# Altium schematic symbol library keyboard_library.SCHLIB: 8 symbols
Pins are listed as number, name and electrical type; pins without a type are passive.

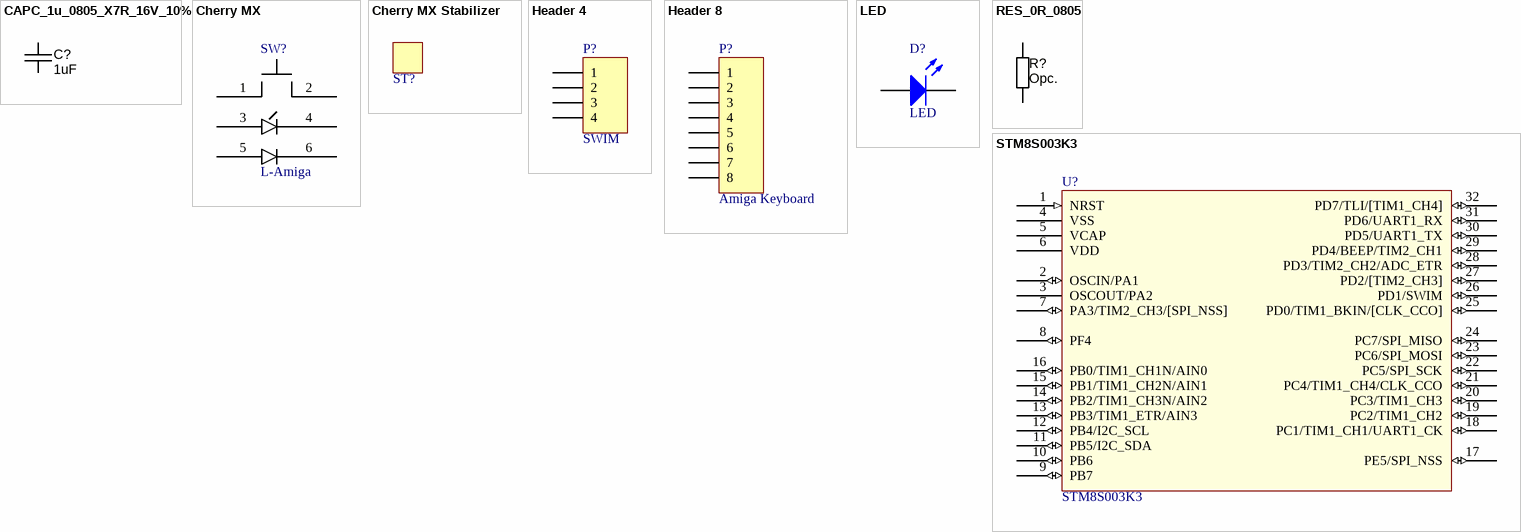
[diagram p0: symbols CAPC_1u_0805_X7R_16V_10% to STM8S003K3]

## CAPC_1u_0805_X7R_16V_10%
designator C?, comment value 1uF  (hidden comment: 0805)
Capacitor SMD Cer X7R 0805; Tolerance: ±10%; Ratings: 16V; X7R; Material: ceramic; SCDType: spec; Package / Case: 0805 (2012 metric); Temperature Coefficient: X7R
footprint CAPC2012X135N (Chip Capacitor, Body 2.0x1.2mm, 0805, IPC Medium Density)
pins: 1, 2

## Cherry MX
designator SW?, comment L-Amiga
Cherry MX keyboard switch
footprint CHERRYMX_5PIN (Cherry MX 5 pin mechanical keyboard switch)
pins: 1, 2, 3, 4, 5, 6

## Cherry MX Stabilizer
designator ST?  (value not drawn)
Stabilizer for Cherry MX compatible switches
footprint CHERRYMX_STAB (Cherry MX Stabilizer)

## Header 4
designator P?, comment SWIM
Header, 4-Pin; LatestRevisionDate: 17-Jul-2002; LatestRevisionNote: Re-released for DXP Platform.; Publisher: Altium Limited
footprint HDR1X4 (Connector; Header; 4 Position)
signal-integrity model Connector
pins: 1, 2, 3, 4

## Header 8
designator P?, comment Amiga Keyboard
Header, 8-Pin; LatestRevisionDate: 17-Jul-2002; LatestRevisionNote: Re-released for DXP Platform.; Publisher: Altium Limited
footprint HDR1X8 (Connector; Header; 8 Position)
signal-integrity model Connector
pins: 1, 2, 3, 4, 5, 6, 7, 8

## LED
designator D?
Typical LED; Published: 8-Jun-2000; LatestRevisionDate: 08-Jul-2005; LatestRevisionNote: Mech Layer 1 removed.; PackageReference: LED-1; Publisher: Altium Limited; PackageDescription: LED; 2 Leads
footprint LEDSQ_5mm (Square LED 5mm)
pins: 1 A, 2 K

## RES_0R_0805
designator R?, comment value Opc.  (hidden comment: 0805)
Resistor SMD chip 0.0 Ohm 0.125W 0805; Manufacturer 1: Samsung Electro-Mechanics America, Inc; Manufacturer Part Number 1: RC2012J000CS; Ratings: 1/8W; SCDType: spec; Tolerance: N/A; Package / Case: 0805 (2012 metric); Supplier 1: Digi-Key; Supplier Part Number 1: 1276-5466-6-ND; RoHS 1: RoHS Compliant; ComponentLink1URL: http://www.samsungsem.com/servlet/FileDownload?filename=productcatalog/pdf/Chip_Resistor.pdf; ComponentLink1Description: http://www.samsungsem.com/servlet/FileDownload?filename=productcatalog/pdf/Chip_Resistor.pdf; Supplier 2: Digi-Key; Supplier Part Number 2: RMCF0805ZT0R00DKR-ND; Manufacturer 2: Stackpole Electronics Inc; Manufacturer Part Number 2: RMCF0805ZT0R00; RoHS 2: RoHS Compliant; ComponentLink2URL: http://www.seielect.com/Catalog/SEI-RMCF_RMCP.pdf; ComponentLink2Description: http://www.seielect.com/Catalog/SEI-RMCF_RMCP.pdf; Supplier 3: Digi-Key; Supplier Part Number 3: 311-0.0ARDKR-ND; Manufacturer 3: Yageo; Manufacturer Part Number 3: RC0805JR-070RL; RoHS 3: RoHS Compliant; ComponentLink3URL: http://media.digikey.com/pdf/Data%20Sheets/Yageo%20PDFs/RC0805%20Pb%20Free.pdf; ComponentLink3Description: http://media.digikey.com/pdf/Data%20Sheets/Yageo%20PDFs/RC0805%20Pb%20Free.pdf; Supplier 4: Digi-Key; Supplier Part Number 4: P0.0ADKR-ND; Manufacturer 4: Panasonic Electronic Components; Manufacturer Part Number 4: ERJ-6GEY0R00V; RoHS 4: RoHS Compliant; ComponentLink4URL: http://industrial.panasonic.com/www-cgi/jvcr13pz.cgi?E+PZ+3+AOA0001+ERJ6GEY0R00V+7+WW; ComponentLink4Description: http://industrial.panasonic.com/www-cgi/jvcr13pz.cgi?E+PZ+3+AOA0001+ERJ6GEY0R00V+7+WW; Supplier 5: Digi-Key; Supplier Part Number 5: RHM0.0CPDKR-ND; Manufacturer 5: Rohm Semiconductor; Manufacturer Part Number 5: MCR10ERTJ000; RoHS 5: RoHS Compliant; ComponentLink5URL: http://rohmfs.rohm.com/en/products/databook/datasheet/passive/resistor/chip_resistor/mcr_g.pdf; ComponentLink5Description: http://rohmfs.rohm.com/en/products/databook/datasheet/passive/resistor/chip_resistor/mcr_g.pdf
footprint RESC2012N_ZERO (Chip Resistor, Body 2.0x1.2mm, 0805, IPC Medium Density)
pins: 1, 2

## STM8S003K3
designator U?
ST Microelectronics STM8S003K3 microcontroller
footprint LQFP32_N (Thin QFP, 32-Leads, Body 7x7mm, Pitch 0.8mm, IPC Medium Density)
footprint LQFP32_L (Thin QFP, 32-Leads, Body 7x7mm, Pitch 0.8mm, IPC High Density)
footprint LQFP32_M (Thin QFP, 32-Leads, Body 7x7mm, Pitch 0.8mm, IPC Low Density)
pins: 1 NRST (in), 2 OSCIN/PA1 (io), 3 OSCOUT/PA2, 4 VSS (power), 5 VCAP, 6 VDD (power), 7 PA3/TIM2_CH3/[SPI_NSS] (io), 8 PF4 (io), 9 PB7 (io), 10 PB6 (io), 11 PB5/I2C_SDA (io), 12 PB4/I2C_SCL (io), 13 PB3/TIM1_ETR/AIN3 (io), 14 PB2/TIM1_CH3N/AIN2 (io), 15 PB1/TIM1_CH2N/AIN1 (io), 16 PB0/TIM1_CH1N/AIN0 (io), 17 PE5/SPI_NSS (io), 18 PC1/TIM1_CH1/UART1_CK (io), 19 PC2/TIM1_CH2 (io), 20 PC3/TIM1_CH3 (io), 21 PC4/TIM1_CH4/CLK_CCO (io), 22 PC5/SPI_SCK (io), 23 PC6/SPI_MOSI (io), 24 PC7/SPI_MISO (io), 25 PD0/TIM1_BKIN/[CLK_CCO] (io), 26 PD1/SWIM (io), 27 PD2/[TIM2_CH3] (io), 28 PD3/TIM2_CH2/ADC_ETR (io), 29 PD4/BEEP/TIM2_CH1 (io), 30 PD5/UART1_TX (io), 31 PD6/UART1_RX (io), 32 PD7/TLI/[TIM1_CH4] (io)